# Altium integrated library InductancePowerSMD12136.IntLib: 1 symbol
Pins are listed as number, name and electrical type; pins without a type are passive.

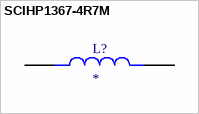
[diagram p0: symbol SCIHP1367-4R7M]

## SCIHP1367-4R7M
designator L?
High Current Shielded SMD Power Inductor | Inductance 4.7uH | Test Frequency 200KHz | DC Resistance 0.0112? | Saturation Current 25A | Temperature Current 13.5A | Max Height 6.7mm; MF: Signal Transformer; MP: SCIHP1367-4R7M; Price: None; Check_prices: https://www.snapeda.com/parts/SCIHP1367-4R7M/Signal%20Transformer/view-part/1550067/?ref=eda; SnapEDA_Link: https://www.snapeda.com/parts/SCIHP1367-4R7M/Signal%20Transformer/view-part/1550067/?ref=snap; Package: Nonstandard Signal Transformers; Availability: Bad; Value: *
footprint IND_SCIHP1367-100M
pins: 1, 2